# EAGLE library part 74HC4040N,652 (library NXP_By_element14_Batch_1)
12-stage binary ripple counter
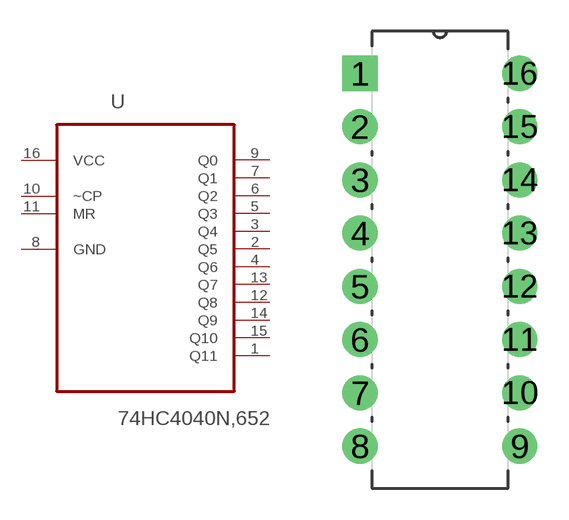
[diagram p91: symbol with the pads of DIP254P762X470-16; footprint DIP254P762X470-16]

Designator prefix U

## 74HC4040N,652 (MPN: 74HC4040N,652; OC_FARNELL: -; OC_NEWARK: 71R2481; P1I: o; PACKAGE: DIP-16; SUPPLIER: NXP)  [DIP254P762X470-16]
1  Q11  out
2  Q5  out
3  Q4  out
4  Q6  out
5  Q3  out
6  Q2  out
7  Q1  out
8  GND  pas
9  Q0  out
10  ~CP  in
11  MR  in
12  Q8  out
13  Q7  out
14  Q9  out
15  Q10  out
16  VCC  pwr

## Footprint DIP254P762X470-16 (pad centres in mm)
drill 1.118 square: 1 -7.62,17.78
drill 1.118: 2 -7.62,15.24; 3 -7.62,12.7; 4 -7.62,10.16; 5 -7.62,7.62; 6 -7.62,5.08; 7 -7.62,2.54; 8 -7.62,0; 9 0,0; 10 0,2.54; 11 0,5.08; 12 0,7.62; 13 0,10.16; 14 0,12.7; 15 0,15.24; 16 0,17.78